# Altium integrated library TI Amplifiers and Linear Operational Amplifier High Speed.IntLib: 1100 symbols (part 31 of 44)
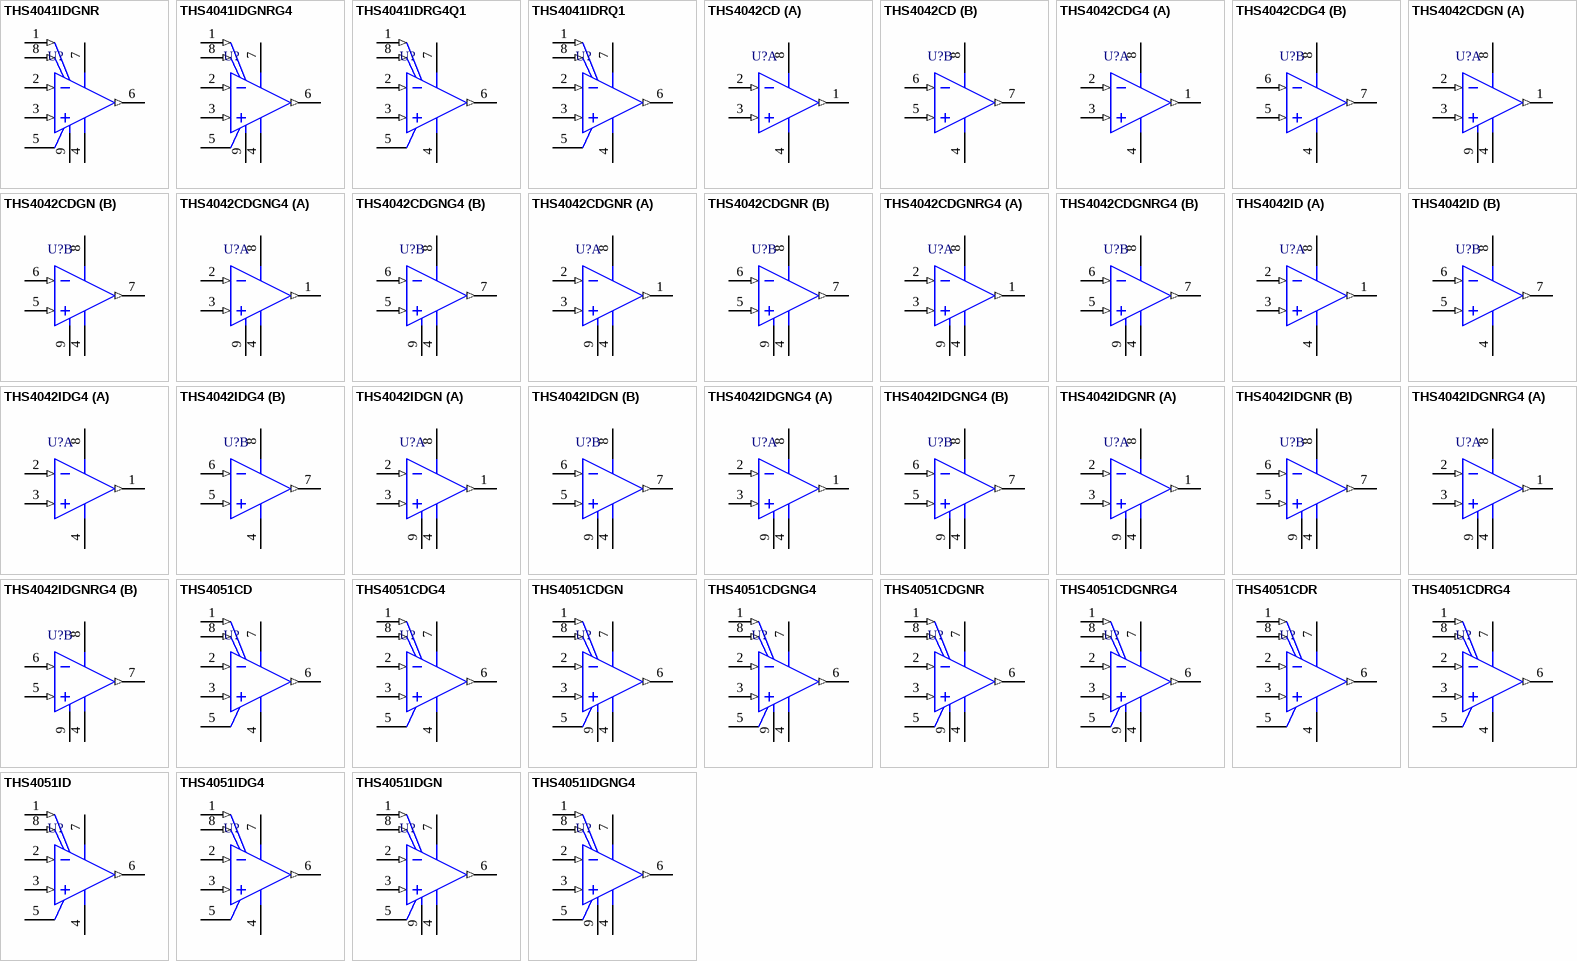
[diagram p81: symbols THS4041IDGNR to THS4051IDGNG4]

## THS4051CDGN
designator U?
70 MHz Low-Cost Voltage-Feedback Amplifier, 9 to 32 V, 0 to 70 degC, 8-pin SOP (DGN8), Green (RoHS & no Sb/Br); Manufacturer: Texas Instruments; PartNumber: THS4051CDGN; 2nd Harmonic(dBc): 84; 3rd Harmonic(dBc): 90; @ MHz: 1; BW @ Acl(MHz): 70; Diff Gain(%): 0.01; Iib(Max)(nA): 8000; Io(Typ)(mA): 100; Iq per channel(Max)(mA): 11.5; Settling Time (0.1%)(Typ)(ns): 60; Slew Rate(Typ)(V/us): 240; Sub Family: High Output Current Amplifier (>=50mA), High Speed Amplifier (>=50MHz), High Supply Voltage Amplifier (>=30V); THD (Fc is 1 MHz)(Typ)(dB): -82; Vio(Max)(mV): 10; Vn at Flatband(Typ)(nV/rtHz): 14; Vs(Max)(V): 32; Vs(Min)(V): 9; DatasheetVersion: SLOS238D; PackageVersion: 4073271/F, 05/2011; PackageReference: DGN8-1760X1425TP; PackageDescription: 8-pin Plastic Small Outline, Body 3 x 3 mm, Pitch 0.65 mm; Supplier 1: Digi-Key; Supplier Part Number 1: THS4051CDGN-ND; Supplier 2: Mouser; Supplier Part Number 2: 595-THS4051CDGN; Acl, min stable gain(V/V): 1; Diff Phase(deg): 0.01; Eco-Plan: Green (RoHS & no Sb/Br); Number of Channels: 1; Mounting Technology: Surface Mount; Code_JEDEC: MO-187; ComponentLink1Description: Manufacturer URL; ComponentLink1URL: http://www.ti.com/; ComponentLink2Description: Datasheet; ComponentLink2URL: http://www.ti.com/general/docs/lit/getliterature.tsp?genericPartNumber=THS4051&fileType=pdf; ComponentLink3Description: Package Specification; ComponentLink3URL: http://www.ti.com/litv/pdf/mpds046e
footprint TI-DGN8-1760X1425TP_N (SOP, 8-Leads, Body 3x3mm, Pitch 0.65mm, Thermal Pad 1.76x1.425mm, IPC Medium Density)
footprint TI-DGN8-1760X1425TP_L (SOP, 8-Leads, Body 3x3mm, Pitch 0.65mm, Thermal Pad 1.76x1.425mm, IPC High Density)
footprint TI-DGN8-1760X1425TP_M (SOP, 8-Leads, Body 3x3mm, Pitch 0.65mm, Thermal Pad 1.76 x 1.425 mm, IPC Low Density)
pins: 1 NULL (in), 2 IN- (in), 3 IN+ (in), 4 VCC- (power), 5 NC, 6 OUT (out), 7 VCC+ (power), 8 NULL (in), 9 EP

## THS4051CDGNG4
designator U?
70 MHz Low-Cost Voltage-Feedback Amplifier, 9 to 32 V, 0 to 70 degC, 8-pin SOP (DGN8), Green (RoHS & no Sb/Br); Manufacturer: Texas Instruments; PartNumber: THS4051CDGNG4; 2nd Harmonic(dBc): 84; 3rd Harmonic(dBc): 90; @ MHz: 1; BW @ Acl(MHz): 70; Diff Gain(%): 0.01; Iib(Max)(nA): 8000; Io(Typ)(mA): 100; Iq per channel(Max)(mA): 11.5; Settling Time (0.1%)(Typ)(ns): 60; Slew Rate(Typ)(V/us): 240; Sub Family: High Output Current Amplifier (>=50mA), High Speed Amplifier (>=50MHz), High Supply Voltage Amplifier (>=30V); THD (Fc is 1 MHz)(Typ)(dB): -82; Vio(Max)(mV): 10; Vn at Flatband(Typ)(nV/rtHz): 14; Vs(Max)(V): 32; Vs(Min)(V): 9; DatasheetVersion: SLOS238D; PackageVersion: 4073271/F, 05/2011; PackageReference: DGN8-1760X1425TP; PackageDescription: 8-pin Plastic Small Outline, Body 3 x 3 mm, Pitch 0.65 mm; Supplier 1: Digi-Key; Supplier Part Number 1: THS4051CDGNG4-ND; Supplier 2: Mouser; Supplier Part Number 2: 595-THS4051CDGNG4; Acl, min stable gain(V/V): 1; Diff Phase(deg): 0.01; Eco-Plan: Green (RoHS & no Sb/Br); Number of Channels: 1; Mounting Technology: Surface Mount; Code_JEDEC: MO-187; ComponentLink1Description: Manufacturer URL; ComponentLink1URL: http://www.ti.com/; ComponentLink2Description: Datasheet; ComponentLink2URL: http://www.ti.com/general/docs/lit/getliterature.tsp?genericPartNumber=THS4051&fileType=pdf; ComponentLink3Description: Package Specification; ComponentLink3URL: http://www.ti.com/litv/pdf/mpds046e
footprint TI-DGN8-1760X1425TP_N (SOP, 8-Leads, Body 3x3mm, Pitch 0.65mm, Thermal Pad 1.76x1.425mm, IPC Medium Density)
footprint TI-DGN8-1760X1425TP_L (SOP, 8-Leads, Body 3x3mm, Pitch 0.65mm, Thermal Pad 1.76x1.425mm, IPC High Density)
footprint TI-DGN8-1760X1425TP_M (SOP, 8-Leads, Body 3x3mm, Pitch 0.65mm, Thermal Pad 1.76 x 1.425 mm, IPC Low Density)
pins: 1 NULL (in), 2 IN- (in), 3 IN+ (in), 4 VCC- (power), 5 NC, 6 OUT (out), 7 VCC+ (power), 8 NULL (in), 9 EP

## THS4051CDGNR
designator U?
70 MHz Low-Cost Voltage-Feedback Amplifier, 9 to 32 V, 0 to 70 degC, 8-pin SOP (DGN8), Green (RoHS & no Sb/Br); Manufacturer: Texas Instruments; PartNumber: THS4051CDGNR; 2nd Harmonic(dBc): 84; 3rd Harmonic(dBc): 90; @ MHz: 1; BW @ Acl(MHz): 70; Diff Gain(%): 0.01; Iib(Max)(nA): 8000; Io(Typ)(mA): 100; Iq per channel(Max)(mA): 11.5; Settling Time (0.1%)(Typ)(ns): 60; Slew Rate(Typ)(V/us): 240; Sub Family: High Output Current Amplifier (>=50mA), High Speed Amplifier (>=50MHz), High Supply Voltage Amplifier (>=30V); THD (Fc is 1 MHz)(Typ)(dB): -82; Vio(Max)(mV): 10; Vn at Flatband(Typ)(nV/rtHz): 14; Vs(Max)(V): 32; Vs(Min)(V): 9; DatasheetVersion: SLOS238D; PackageVersion: 4073271/F, 05/2011; PackageReference: DGN8-1760X1425TP; PackageDescription: 8-pin Plastic Small Outline, Body 3 x 3 mm, Pitch 0.65 mm; Supplier 1: Digi-Key; Supplier Part Number 1: 296-7534-2-ND; Supplier 2: Digi-Key; Supplier Part Number 2: 296-7534-1-ND; Supplier 3: Digi-Key; Supplier Part Number 3: 296-7534-6-ND; Supplier 4: Mouser; Supplier Part Number 4: 595-THS4051CDGNR; Acl, min stable gain(V/V): 1; Diff Phase(deg): 0.01; Eco-Plan: Green (RoHS & no Sb/Br); Number of Channels: 1; Mounting Technology: Surface Mount; Code_JEDEC: MO-187; ComponentLink1Description: Manufacturer URL; ComponentLink1URL: http://www.ti.com/; ComponentLink2Description: Datasheet; ComponentLink2URL: http://www.ti.com/general/docs/lit/getliterature.tsp?genericPartNumber=THS4051&fileType=pdf; ComponentLink3Description: Package Specification; ComponentLink3URL: http://www.ti.com/litv/pdf/mpds046e
footprint TI-DGN8-1760X1425TP_N (SOP, 8-Leads, Body 3x3mm, Pitch 0.65mm, Thermal Pad 1.76x1.425mm, IPC Medium Density)
footprint TI-DGN8-1760X1425TP_L (SOP, 8-Leads, Body 3x3mm, Pitch 0.65mm, Thermal Pad 1.76x1.425mm, IPC High Density)
footprint TI-DGN8-1760X1425TP_M (SOP, 8-Leads, Body 3x3mm, Pitch 0.65mm, Thermal Pad 1.76 x 1.425 mm, IPC Low Density)
pins: 1 NULL (in), 2 IN- (in), 3 IN+ (in), 4 VCC- (power), 5 NC, 6 OUT (out), 7 VCC+ (power), 8 NULL (in), 9 EP

## THS4051CDGNRG4
designator U?
70 MHz Low-Cost Voltage-Feedback Amplifier, 9 to 32 V, 0 to 70 degC, 8-pin SOP (DGN8), Green (RoHS & no Sb/Br); Manufacturer: Texas Instruments; PartNumber: THS4051CDGNRG4; 2nd Harmonic(dBc): 84; 3rd Harmonic(dBc): 90; @ MHz: 1; BW @ Acl(MHz): 70; Diff Gain(%): 0.01; Iib(Max)(nA): 8000; Io(Typ)(mA): 100; Iq per channel(Max)(mA): 11.5; Settling Time (0.1%)(Typ)(ns): 60; Slew Rate(Typ)(V/us): 240; Sub Family: High Output Current Amplifier (>=50mA), High Speed Amplifier (>=50MHz), High Supply Voltage Amplifier (>=30V); THD (Fc is 1 MHz)(Typ)(dB): -82; Vio(Max)(mV): 10; Vn at Flatband(Typ)(nV/rtHz): 14; Vs(Max)(V): 32; Vs(Min)(V): 9; DatasheetVersion: SLOS238D; PackageVersion: 4073271/F, 05/2011; PackageReference: DGN8-1760X1425TP; PackageDescription: 8-pin Plastic Small Outline, Body 3 x 3 mm, Pitch 0.65 mm; Supplier 1: Digi-Key; Supplier Part Number 1: THS4051CDGNRG4-ND; Supplier 2: Mouser; Supplier Part Number 2: 595-THS4051CDGNRG4; Acl, min stable gain(V/V): 1; Diff Phase(deg): 0.01; Eco-Plan: Green (RoHS & no Sb/Br); Number of Channels: 1; Mounting Technology: Surface Mount; Code_JEDEC: MO-187; ComponentLink1Description: Manufacturer URL; ComponentLink1URL: http://www.ti.com/; ComponentLink2Description: Datasheet; ComponentLink2URL: http://www.ti.com/general/docs/lit/getliterature.tsp?genericPartNumber=THS4051&fileType=pdf; ComponentLink3Description: Package Specification; ComponentLink3URL: http://www.ti.com/litv/pdf/mpds046e
footprint TI-DGN8-1760X1425TP_N (SOP, 8-Leads, Body 3x3mm, Pitch 0.65mm, Thermal Pad 1.76x1.425mm, IPC Medium Density)
footprint TI-DGN8-1760X1425TP_L (SOP, 8-Leads, Body 3x3mm, Pitch 0.65mm, Thermal Pad 1.76x1.425mm, IPC High Density)
footprint TI-DGN8-1760X1425TP_M (SOP, 8-Leads, Body 3x3mm, Pitch 0.65mm, Thermal Pad 1.76 x 1.425 mm, IPC Low Density)
pins: 1 NULL (in), 2 IN- (in), 3 IN+ (in), 4 VCC- (power), 5 NC, 6 OUT (out), 7 VCC+ (power), 8 NULL (in), 9 EP

## THS4051CDR
designator U?
70 MHz Low-Cost Voltage-Feedback Amplifier, 9 to 32 V, 0 to 70 degC, 8-pin SOIC (D8), Green (RoHS & no Sb/Br); Manufacturer: Texas Instruments; PartNumber: THS4051CDR; 2nd Harmonic(dBc): 84; 3rd Harmonic(dBc): 90; @ MHz: 1; BW @ Acl(MHz): 70; Diff Gain(%): 0.01; Iib(Max)(nA): 8000; Io(Typ)(mA): 100; Iq per channel(Max)(mA): 11.5; Settling Time (0.1%)(Typ)(ns): 60; Slew Rate(Typ)(V/us): 240; Sub Family: High Output Current Amplifier (>=50mA), High Speed Amplifier (>=50MHz), High Supply Voltage Amplifier (>=30V); THD (Fc is 1 MHz)(Typ)(dB): -82; Vio(Max)(mV): 10; Vn at Flatband(Typ)(nV/rtHz): 14; Vs(Max)(V): 32; Vs(Min)(V): 9; DatasheetVersion: SLOS238D; PackageVersion: 4040047-3/M, 06/2011; PackageReference: D8; PackageDescription: 8-Pin Plastic Small Outline, Body 4.9 x 3.9 mm, Pitch 1.27 mm; Supplier 1: Digi-Key; Supplier Part Number 1: THS4051CDR-ND; Supplier 2: Newark; Supplier Part Number 2: 76C6336; Supplier 3: Mouser; Supplier Part Number 3: 595-THS4051CDR; Acl, min stable gain(V/V): 1; Diff Phase(deg): 0.01; Eco-Plan: Green (RoHS & no Sb/Br); Number of Channels: 1; Mounting Technology: Surface Mount; Code_JEDEC: MS-012; ComponentLink1Description: Manufacturer URL; ComponentLink1URL: http://www.ti.com/; ComponentLink2Description: Datasheet; ComponentLink2URL: http://www.ti.com/general/docs/lit/getliterature.tsp?genericPartNumber=THS4051&fileType=pdf; ComponentLink3Description: Package Specification; ComponentLink3URL: http://www.ti.com/litv/pdf/msoi002j
footprint TI-D8_N (SOIC, 8-Leads, Body 4.9x3.9mm, Pitch 1.27mm, IPC Medium Density)
footprint TI-D8_L (SOIC, 8-Leads, Body 4.9x3.9mm, Pitch 1.27mm, IPC High Density)
footprint TI-D8_M (SOIC, 8-Leads, Body 4.9x3.9mm, Pitch 1.27mm, IPC Low Density)
pins: 1 NULL (in), 2 IN- (in), 3 IN+ (in), 4 VCC- (power), 5 NC, 6 OUT (out), 7 VCC+ (power), 8 NULL (in)

## THS4051CDRG4
designator U?
70 MHz Low-Cost Voltage-Feedback Amplifier, 9 to 32 V, 0 to 70 degC, 8-pin SOIC (D8), Green (RoHS & no Sb/Br); Manufacturer: Texas Instruments; PartNumber: THS4051CDRG4; 2nd Harmonic(dBc): 84; 3rd Harmonic(dBc): 90; @ MHz: 1; BW @ Acl(MHz): 70; Diff Gain(%): 0.01; Iib(Max)(nA): 8000; Io(Typ)(mA): 100; Iq per channel(Max)(mA): 11.5; Settling Time (0.1%)(Typ)(ns): 60; Slew Rate(Typ)(V/us): 240; Sub Family: High Output Current Amplifier (>=50mA), High Speed Amplifier (>=50MHz), High Supply Voltage Amplifier (>=30V); THD (Fc is 1 MHz)(Typ)(dB): -82; Vio(Max)(mV): 10; Vn at Flatband(Typ)(nV/rtHz): 14; Vs(Max)(V): 32; Vs(Min)(V): 9; DatasheetVersion: SLOS238D; PackageVersion: 4040047-3/M, 06/2011; PackageReference: D8; PackageDescription: 8-Pin Plastic Small Outline, Body 4.9 x 3.9 mm, Pitch 1.27 mm; Supplier 1: Digi-Key; Supplier Part Number 1: THS4051CDRG4-ND; Supplier 2: Mouser; Supplier Part Number 2: 595-THS4051CDRG4; Acl, min stable gain(V/V): 1; Diff Phase(deg): 0.01; Eco-Plan: Green (RoHS & no Sb/Br); Number of Channels: 1; Mounting Technology: Surface Mount; Code_JEDEC: MS-012; ComponentLink1Description: Manufacturer URL; ComponentLink1URL: http://www.ti.com/; ComponentLink2Description: Datasheet; ComponentLink2URL: http://www.ti.com/general/docs/lit/getliterature.tsp?genericPartNumber=THS4051&fileType=pdf; ComponentLink3Description: Package Specification; ComponentLink3URL: http://www.ti.com/litv/pdf/msoi002j
footprint TI-D8_N (SOIC, 8-Leads, Body 4.9x3.9mm, Pitch 1.27mm, IPC Medium Density)
footprint TI-D8_L (SOIC, 8-Leads, Body 4.9x3.9mm, Pitch 1.27mm, IPC High Density)
footprint TI-D8_M (SOIC, 8-Leads, Body 4.9x3.9mm, Pitch 1.27mm, IPC Low Density)
pins: 1 NULL (in), 2 IN- (in), 3 IN+ (in), 4 VCC- (power), 5 NC, 6 OUT (out), 7 VCC+ (power), 8 NULL (in)

## THS4051ID
designator U?
70 MHz Low-Cost Voltage-Feedback Amplifier, 9 to 32 V, -40 to 85 degC, 8-pin SOIC (D8), Green (RoHS & no Sb/Br); Manufacturer: Texas Instruments; PartNumber: THS4051ID; 2nd Harmonic(dBc): 84; 3rd Harmonic(dBc): 90; @ MHz: 1; BW @ Acl(MHz): 70; Diff Gain(%): 0.01; Iib(Max)(nA): 8000; Io(Typ)(mA): 100; Iq per channel(Max)(mA): 11.5; Settling Time (0.1%)(Typ)(ns): 60; Slew Rate(Typ)(V/us): 240; Sub Family: High Output Current Amplifier (>=50mA), High Speed Amplifier (>=50MHz), High Supply Voltage Amplifier (>=30V); THD (Fc is 1 MHz)(Typ)(dB): -82; Vio(Max)(mV): 10; Vn at Flatband(Typ)(nV/rtHz): 14; Vs(Max)(V): 32; Vs(Min)(V): 9; DatasheetVersion: SLOS238D; PackageVersion: 4040047-3/M, 06/2011; PackageReference: D8; PackageDescription: 8-Pin Plastic Small Outline, Body 4.9 x 3.9 mm, Pitch 1.27 mm; Supplier 1: Digi-Key; Supplier Part Number 1: 296-7535-5-ND; Supplier 2: Newark; Supplier Part Number 2: 76C6338; Supplier 3: Mouser; Supplier Part Number 3: 595-THS4051ID; Acl, min stable gain(V/V): 1; Diff Phase(deg): 0.01; Eco-Plan: Green (RoHS & no Sb/Br); Number of Channels: 1; Mounting Technology: Surface Mount; Code_JEDEC: MS-012; ComponentLink1Description: Manufacturer URL; ComponentLink1URL: http://www.ti.com/; ComponentLink2Description: Datasheet; ComponentLink2URL: http://www.ti.com/general/docs/lit/getliterature.tsp?genericPartNumber=THS4051&fileType=pdf; ComponentLink3Description: Package Specification; ComponentLink3URL: http://www.ti.com/litv/pdf/msoi002j
footprint TI-D8_N (SOIC, 8-Leads, Body 4.9x3.9mm, Pitch 1.27mm, IPC Medium Density)
footprint TI-D8_L (SOIC, 8-Leads, Body 4.9x3.9mm, Pitch 1.27mm, IPC High Density)
footprint TI-D8_M (SOIC, 8-Leads, Body 4.9x3.9mm, Pitch 1.27mm, IPC Low Density)
pins: 1 NULL (in), 2 IN- (in), 3 IN+ (in), 4 VCC- (power), 5 NC, 6 OUT (out), 7 VCC+ (power), 8 NULL (in)

## THS4051IDG4
designator U?
70 MHz Low-Cost Voltage-Feedback Amplifier, 9 to 32 V, -40 to 85 degC, 8-pin SOIC (D8), Green (RoHS & no Sb/Br); Manufacturer: Texas Instruments; PartNumber: THS4051IDG4; 2nd Harmonic(dBc): 84; 3rd Harmonic(dBc): 90; @ MHz: 1; BW @ Acl(MHz): 70; Diff Gain(%): 0.01; Iib(Max)(nA): 8000; Io(Typ)(mA): 100; Iq per channel(Max)(mA): 11.5; Settling Time (0.1%)(Typ)(ns): 60; Slew Rate(Typ)(V/us): 240; Sub Family: High Output Current Amplifier (>=50mA), High Speed Amplifier (>=50MHz), High Supply Voltage Amplifier (>=30V); THD (Fc is 1 MHz)(Typ)(dB): -82; Vio(Max)(mV): 10; Vn at Flatband(Typ)(nV/rtHz): 14; Vs(Max)(V): 32; Vs(Min)(V): 9; DatasheetVersion: SLOS238D; PackageVersion: 4040047-3/M, 06/2011; PackageReference: D8; PackageDescription: 8-Pin Plastic Small Outline, Body 4.9 x 3.9 mm, Pitch 1.27 mm; Supplier 1: Digi-Key; Supplier Part Number 1: THS4051IDG4-ND; Supplier 2: Mouser; Supplier Part Number 2: 595-THS4051IDG4; Acl, min stable gain(V/V): 1; Diff Phase(deg): 0.01; Eco-Plan: Green (RoHS & no Sb/Br); Number of Channels: 1; Mounting Technology: Surface Mount; Code_JEDEC: MS-012; ComponentLink1Description: Manufacturer URL; ComponentLink1URL: http://www.ti.com/; ComponentLink2Description: Datasheet; ComponentLink2URL: http://www.ti.com/general/docs/lit/getliterature.tsp?genericPartNumber=THS4051&fileType=pdf; ComponentLink3Description: Package Specification; ComponentLink3URL: http://www.ti.com/litv/pdf/msoi002j
footprint TI-D8_N (SOIC, 8-Leads, Body 4.9x3.9mm, Pitch 1.27mm, IPC Medium Density)
footprint TI-D8_L (SOIC, 8-Leads, Body 4.9x3.9mm, Pitch 1.27mm, IPC High Density)
footprint TI-D8_M (SOIC, 8-Leads, Body 4.9x3.9mm, Pitch 1.27mm, IPC Low Density)
pins: 1 NULL (in), 2 IN- (in), 3 IN+ (in), 4 VCC- (power), 5 NC, 6 OUT (out), 7 VCC+ (power), 8 NULL (in)

## THS4051IDGN
designator U?
70 MHz Low-Cost Voltage-Feedback Amplifier, 9 to 32 V, -40 to 85 degC, 8-pin SOP (DGN8), Green (RoHS & no Sb/Br); Manufacturer: Texas Instruments; PartNumber: THS4051IDGN; 2nd Harmonic(dBc): 84; 3rd Harmonic(dBc): 90; @ MHz: 1; BW @ Acl(MHz): 70; Diff Gain(%): 0.01; Iib(Max)(nA): 8000; Io(Typ)(mA): 100; Iq per channel(Max)(mA): 11.5; Settling Time (0.1%)(Typ)(ns): 60; Slew Rate(Typ)(V/us): 240; Sub Family: High Output Current Amplifier (>=50mA), High Speed Amplifier (>=50MHz), High Supply Voltage Amplifier (>=30V); THD (Fc is 1 MHz)(Typ)(dB): -82; Vio(Max)(mV): 10; Vn at Flatband(Typ)(nV/rtHz): 14; Vs(Max)(V): 32; Vs(Min)(V): 9; DatasheetVersion: SLOS238D; PackageVersion: 4073271/F, 05/2011; PackageReference: DGN8-1760X1425TP; PackageDescription: 8-pin Plastic Small Outline, Body 3 x 3 mm, Pitch 0.65 mm; Supplier 1: Digi-Key; Supplier Part Number 1: THS4051IDGN-ND; Supplier 2: Mouser; Supplier Part Number 2: 595-THS4051IDGN; Acl, min stable gain(V/V): 1; Diff Phase(deg): 0.01; Eco-Plan: Green (RoHS & no Sb/Br); Number of Channels: 1; Mounting Technology: Surface Mount; Code_JEDEC: MO-187; ComponentLink1Description: Manufacturer URL; ComponentLink1URL: http://www.ti.com/; ComponentLink2Description: Datasheet; ComponentLink2URL: http://www.ti.com/general/docs/lit/getliterature.tsp?genericPartNumber=THS4051&fileType=pdf; ComponentLink3Description: Package Specification; ComponentLink3URL: http://www.ti.com/litv/pdf/mpds046e
footprint TI-DGN8-1760X1425TP_N (SOP, 8-Leads, Body 3x3mm, Pitch 0.65mm, Thermal Pad 1.76x1.425mm, IPC Medium Density)
footprint TI-DGN8-1760X1425TP_L (SOP, 8-Leads, Body 3x3mm, Pitch 0.65mm, Thermal Pad 1.76x1.425mm, IPC High Density)
footprint TI-DGN8-1760X1425TP_M (SOP, 8-Leads, Body 3x3mm, Pitch 0.65mm, Thermal Pad 1.76 x 1.425 mm, IPC Low Density)
pins: 1 NULL (in), 2 IN- (in), 3 IN+ (in), 4 VCC- (power), 5 NC, 6 OUT (out), 7 VCC+ (power), 8 NULL (in), 9 EP

## THS4051IDGNG4
designator U?
70 MHz Low-Cost Voltage-Feedback Amplifier, 9 to 32 V, -40 to 85 degC, 8-pin SOP (DGN8), Green (RoHS & no Sb/Br); Manufacturer: Texas Instruments; PartNumber: THS4051IDGNG4; 2nd Harmonic(dBc): 84; 3rd Harmonic(dBc): 90; @ MHz: 1; BW @ Acl(MHz): 70; Diff Gain(%): 0.01; Iib(Max)(nA): 8000; Io(Typ)(mA): 100; Iq per channel(Max)(mA): 11.5; Settling Time (0.1%)(Typ)(ns): 60; Slew Rate(Typ)(V/us): 240; Sub Family: High Output Current Amplifier (>=50mA), High Speed Amplifier (>=50MHz), High Supply Voltage Amplifier (>=30V); THD (Fc is 1 MHz)(Typ)(dB): -82; Vio(Max)(mV): 10; Vn at Flatband(Typ)(nV/rtHz): 14; Vs(Max)(V): 32; Vs(Min)(V): 9; DatasheetVersion: SLOS238D; PackageVersion: 4073271/F, 05/2011; PackageReference: DGN8-1760X1425TP; PackageDescription: 8-pin Plastic Small Outline, Body 3 x 3 mm, Pitch 0.65 mm; Supplier 1: Digi-Key; Supplier Part Number 1: THS4051IDGNG4-ND; Supplier 2: Mouser; Supplier Part Number 2: 595-THS4051IDGNG4; Acl, min stable gain(V/V): 1; Diff Phase(deg): 0.01; Eco-Plan: Green (RoHS & no Sb/Br); Number of Channels: 1; Mounting Technology: Surface Mount; Code_JEDEC: MO-187; ComponentLink1Description: Manufacturer URL; ComponentLink1URL: http://www.ti.com/; ComponentLink2Description: Datasheet; ComponentLink2URL: http://www.ti.com/general/docs/lit/getliterature.tsp?genericPartNumber=THS4051&fileType=pdf; ComponentLink3Description: Package Specification; ComponentLink3URL: http://www.ti.com/litv/pdf/mpds046e
footprint TI-DGN8-1760X1425TP_N (SOP, 8-Leads, Body 3x3mm, Pitch 0.65mm, Thermal Pad 1.76x1.425mm, IPC Medium Density)
footprint TI-DGN8-1760X1425TP_L (SOP, 8-Leads, Body 3x3mm, Pitch 0.65mm, Thermal Pad 1.76x1.425mm, IPC High Density)
footprint TI-DGN8-1760X1425TP_M (SOP, 8-Leads, Body 3x3mm, Pitch 0.65mm, Thermal Pad 1.76 x 1.425 mm, IPC Low Density)
pins: 1 NULL (in), 2 IN- (in), 3 IN+ (in), 4 VCC- (power), 5 NC, 6 OUT (out), 7 VCC+ (power), 8 NULL (in), 9 EP

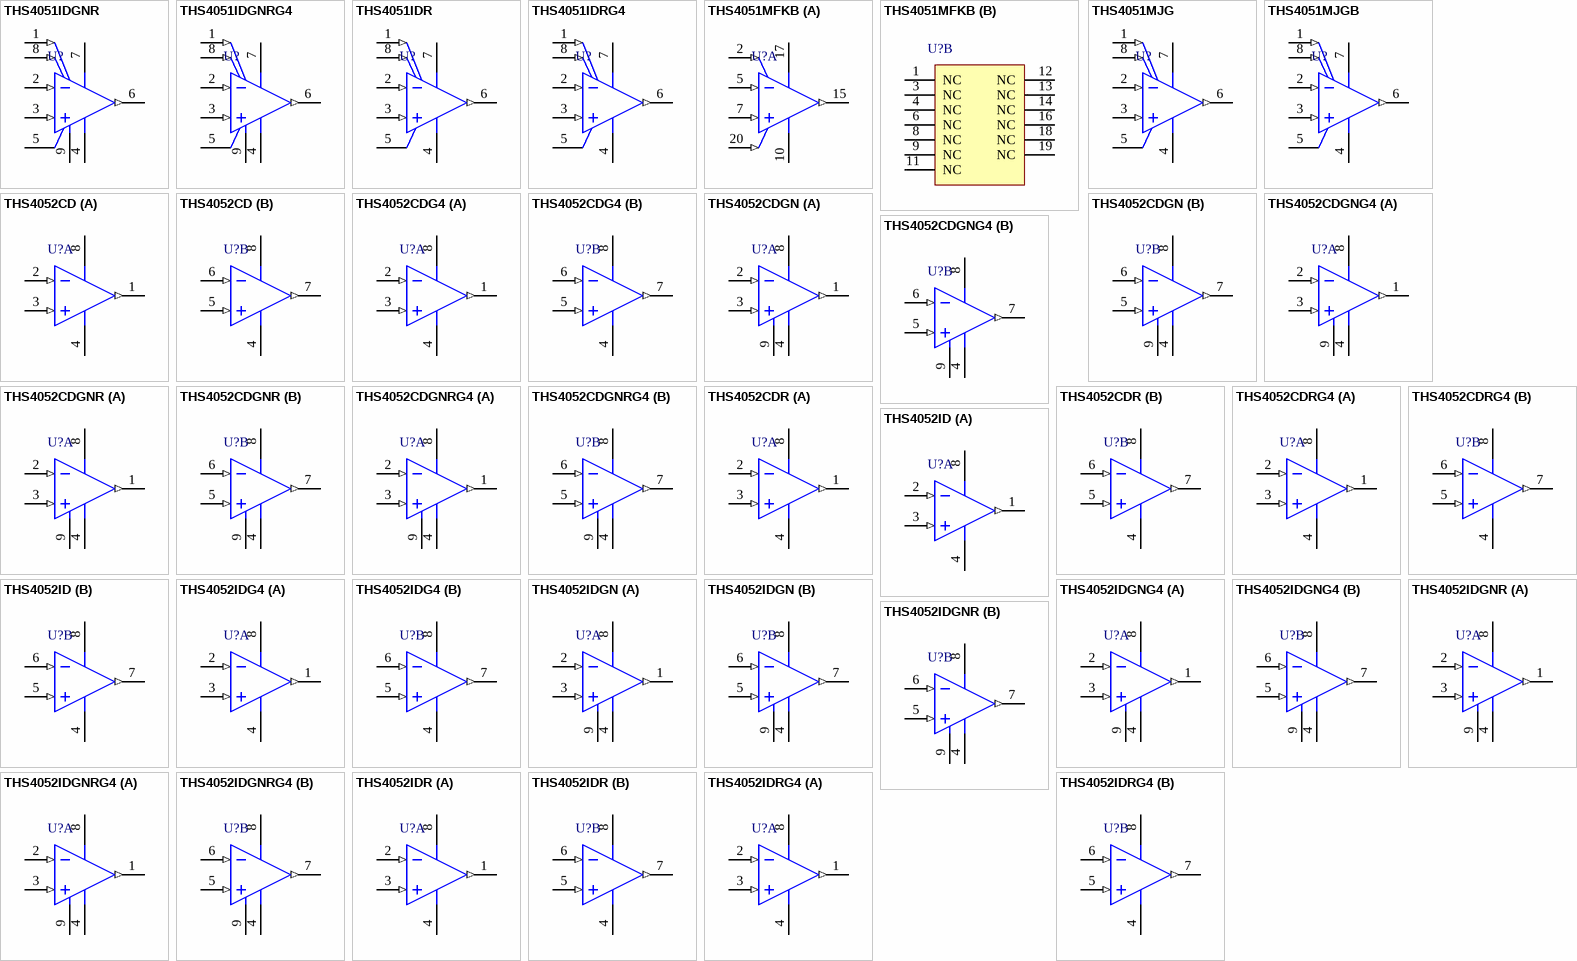
[diagram p36: symbols THS4051IDGNR to THS4052IDRG4]

## THS4051IDGNR
designator U?
70 MHz Low-Cost Voltage-Feedback Amplifier, 9 to 32 V, -40 to 85 degC, 8-pin SOP (DGN8), Green (RoHS & no Sb/Br); Manufacturer: Texas Instruments; PartNumber: THS4051IDGNR; 2nd Harmonic(dBc): 84; 3rd Harmonic(dBc): 90; @ MHz: 1; BW @ Acl(MHz): 70; Diff Gain(%): 0.01; Iib(Max)(nA): 8000; Io(Typ)(mA): 100; Iq per channel(Max)(mA): 11.5; Settling Time (0.1%)(Typ)(ns): 60; Slew Rate(Typ)(V/us): 240; Sub Family: High Output Current Amplifier (>=50mA), High Speed Amplifier (>=50MHz), High Supply Voltage Amplifier (>=30V); THD (Fc is 1 MHz)(Typ)(dB): -82; Vio(Max)(mV): 10; Vn at Flatband(Typ)(nV/rtHz): 14; Vs(Max)(V): 32; Vs(Min)(V): 9; DatasheetVersion: SLOS238D; PackageVersion: 4073271/F, 05/2011; PackageReference: DGN8-1760X1425TP; PackageDescription: 8-pin Plastic Small Outline, Body 3 x 3 mm, Pitch 0.65 mm; Supplier 1: Digi-Key; Supplier Part Number 1: 296-7536-2-ND; Supplier 2: Digi-Key; Supplier Part Number 2: 296-7536-1-ND; Supplier 3: Digi-Key; Supplier Part Number 3: 296-7536-6-ND; Supplier 4: Mouser; Supplier Part Number 4: 595-THS4051IDGNR; Acl, min stable gain(V/V): 1; Diff Phase(deg): 0.01; Eco-Plan: Green (RoHS & no Sb/Br); Number of Channels: 1; Mounting Technology: Surface Mount; Code_JEDEC: MO-187; ComponentLink1Description: Manufacturer URL; ComponentLink1URL: http://www.ti.com/; ComponentLink2Description: Datasheet; ComponentLink2URL: http://www.ti.com/general/docs/lit/getliterature.tsp?genericPartNumber=THS4051&fileType=pdf; ComponentLink3Description: Package Specification; ComponentLink3URL: http://www.ti.com/litv/pdf/mpds046e
footprint TI-DGN8-1760X1425TP_N (SOP, 8-Leads, Body 3x3mm, Pitch 0.65mm, Thermal Pad 1.76x1.425mm, IPC Medium Density)
footprint TI-DGN8-1760X1425TP_L (SOP, 8-Leads, Body 3x3mm, Pitch 0.65mm, Thermal Pad 1.76x1.425mm, IPC High Density)
footprint TI-DGN8-1760X1425TP_M (SOP, 8-Leads, Body 3x3mm, Pitch 0.65mm, Thermal Pad 1.76 x 1.425 mm, IPC Low Density)
pins: 1 NULL (in), 2 IN- (in), 3 IN+ (in), 4 VCC- (power), 5 NC, 6 OUT (out), 7 VCC+ (power), 8 NULL (in), 9 EP

## THS4051IDGNRG4
designator U?
70 MHz Low-Cost Voltage-Feedback Amplifier, 9 to 32 V, -40 to 85 degC, 8-pin SOP (DGN8), Green (RoHS & no Sb/Br); Manufacturer: Texas Instruments; PartNumber: THS4051IDGNRG4; 2nd Harmonic(dBc): 84; 3rd Harmonic(dBc): 90; @ MHz: 1; BW @ Acl(MHz): 70; Diff Gain(%): 0.01; Iib(Max)(nA): 8000; Io(Typ)(mA): 100; Iq per channel(Max)(mA): 11.5; Settling Time (0.1%)(Typ)(ns): 60; Slew Rate(Typ)(V/us): 240; Sub Family: High Output Current Amplifier (>=50mA), High Speed Amplifier (>=50MHz), High Supply Voltage Amplifier (>=30V); THD (Fc is 1 MHz)(Typ)(dB): -82; Vio(Max)(mV): 10; Vn at Flatband(Typ)(nV/rtHz): 14; Vs(Max)(V): 32; Vs(Min)(V): 9; DatasheetVersion: SLOS238D; PackageVersion: 4073271/F, 05/2011; PackageReference: DGN8-1760X1425TP; PackageDescription: 8-pin Plastic Small Outline, Body 3 x 3 mm, Pitch 0.65 mm; Supplier 1: Digi-Key; Supplier Part Number 1: THS4051IDGNRG4-ND; Supplier 2: Mouser; Supplier Part Number 2: 595-THS4051IDGNRG4; Acl, min stable gain(V/V): 1; Diff Phase(deg): 0.01; Eco-Plan: Green (RoHS & no Sb/Br); Number of Channels: 1; Mounting Technology: Surface Mount; Code_JEDEC: MO-187; ComponentLink1Description: Manufacturer URL; ComponentLink1URL: http://www.ti.com/; ComponentLink2Description: Datasheet; ComponentLink2URL: http://www.ti.com/general/docs/lit/getliterature.tsp?genericPartNumber=THS4051&fileType=pdf; ComponentLink3Description: Package Specification; ComponentLink3URL: http://www.ti.com/litv/pdf/mpds046e
footprint TI-DGN8-1760X1425TP_N (SOP, 8-Leads, Body 3x3mm, Pitch 0.65mm, Thermal Pad 1.76x1.425mm, IPC Medium Density)
footprint TI-DGN8-1760X1425TP_L (SOP, 8-Leads, Body 3x3mm, Pitch 0.65mm, Thermal Pad 1.76x1.425mm, IPC High Density)
footprint TI-DGN8-1760X1425TP_M (SOP, 8-Leads, Body 3x3mm, Pitch 0.65mm, Thermal Pad 1.76 x 1.425 mm, IPC Low Density)
pins: 1 NULL (in), 2 IN- (in), 3 IN+ (in), 4 VCC- (power), 5 NC, 6 OUT (out), 7 VCC+ (power), 8 NULL (in), 9 EP

## THS4051IDR
designator U?
70 MHz Low-Cost Voltage-Feedback Amplifier, 9 to 32 V, -40 to 85 degC, 8-pin SOIC (D8), Green (RoHS & no Sb/Br); Manufacturer: Texas Instruments; PartNumber: THS4051IDR; 2nd Harmonic(dBc): 84; 3rd Harmonic(dBc): 90; @ MHz: 1; BW @ Acl(MHz): 70; Diff Gain(%): 0.01; Iib(Max)(nA): 8000; Io(Typ)(mA): 100; Iq per channel(Max)(mA): 11.5; Settling Time (0.1%)(Typ)(ns): 60; Slew Rate(Typ)(V/us): 240; Sub Family: High Output Current Amplifier (>=50mA), High Speed Amplifier (>=50MHz), High Supply Voltage Amplifier (>=30V); THD (Fc is 1 MHz)(Typ)(dB): -82; Vio(Max)(mV): 10; Vn at Flatband(Typ)(nV/rtHz): 14; Vs(Max)(V): 32; Vs(Min)(V): 9; DatasheetVersion: SLOS238D; PackageVersion: 4040047-3/M, 06/2011; PackageReference: D8; PackageDescription: 8-Pin Plastic Small Outline, Body 4.9 x 3.9 mm, Pitch 1.27 mm; Supplier 1: Digi-Key; Supplier Part Number 1: THS4051IDR-ND; Supplier 2: Mouser; Supplier Part Number 2: 595-THS4051IDR; Acl, min stable gain(V/V): 1; Diff Phase(deg): 0.01; Eco-Plan: Green (RoHS & no Sb/Br); Number of Channels: 1; Mounting Technology: Surface Mount; Code_JEDEC: MS-012; ComponentLink1Description: Manufacturer URL; ComponentLink1URL: http://www.ti.com/; ComponentLink2Description: Datasheet; ComponentLink2URL: http://www.ti.com/general/docs/lit/getliterature.tsp?genericPartNumber=THS4051&fileType=pdf; ComponentLink3Description: Package Specification; ComponentLink3URL: http://www.ti.com/litv/pdf/msoi002j
footprint TI-D8_N (SOIC, 8-Leads, Body 4.9x3.9mm, Pitch 1.27mm, IPC Medium Density)
footprint TI-D8_L (SOIC, 8-Leads, Body 4.9x3.9mm, Pitch 1.27mm, IPC High Density)
footprint TI-D8_M (SOIC, 8-Leads, Body 4.9x3.9mm, Pitch 1.27mm, IPC Low Density)
pins: 1 NULL (in), 2 IN- (in), 3 IN+ (in), 4 VCC- (power), 5 NC, 6 OUT (out), 7 VCC+ (power), 8 NULL (in)

## THS4051IDRG4
designator U?
70 MHz Low-Cost Voltage-Feedback Amplifier, 9 to 32 V, -40 to 85 degC, 8-pin SOIC (D8), Green (RoHS & no Sb/Br); Manufacturer: Texas Instruments; PartNumber: THS4051IDRG4; @ MHz: 1; BW @ Acl(MHz): 70; Diff Gain(%): 0.01; Iib(Max)(nA): 6000; Io(Typ)(mA): 100; Iq per channel(Max)(mA): 8.5; Settling Time (0.1%)(Typ)(ns): 60; Slew Rate(Typ)(V/us): 240; Sub Family: High Output Current Amplifier (>=50mA), High Speed Amplifier (>=50MHz), High Supply Voltage Amplifier (>=30V); THD (Fc is 1 MHz)(Typ)(dB): -82; Vio(Max)(mV): 10; Vn at Flatband(Typ)(nV/rtHz): 14; Vs(Max)(V): 32; Vs(Min)(V): 9; DatasheetVersion: SLOS238D; PackageVersion: 4040047-3/M, 06/2011; PackageReference: D8; PackageDescription: 8-Pin Plastic Small Outline, Body 4.9 x 3.9 mm, Pitch 1.27 mm; Supplier 1: Digi-Key; Supplier Part Number 1: THS4051IDRG4-ND; Supplier 2: Mouser; Supplier Part Number 2: 595-THS4051IDRG4; Diff Phase(deg): 0.01; Eco-Plan: Green (RoHS & no Sb/Br); Number of Channels: 1; Mounting Technology: Surface Mount; Code_JEDEC: MS-012; ComponentLink1Description: Manufacturer URL; ComponentLink1URL: http://www.ti.com/; ComponentLink2Description: Datasheet; ComponentLink2URL: http://www.ti.com/general/docs/lit/getliterature.tsp?genericPartNumber=THS4051&fileType=pdf; ComponentLink3Description: Package Specification; ComponentLink3URL: http://www.ti.com/litv/pdf/msoi002j
footprint TI-D8_N (SOIC, 8-Leads, Body 4.9x3.9mm, Pitch 1.27mm, IPC Medium Density)
footprint TI-D8_L (SOIC, 8-Leads, Body 4.9x3.9mm, Pitch 1.27mm, IPC High Density)
footprint TI-D8_M (SOIC, 8-Leads, Body 4.9x3.9mm, Pitch 1.27mm, IPC Low Density)
pins: 1 NULL (in), 2 IN- (in), 3 IN+ (in), 4 VCC- (power), 5 NC, 6 OUT (out), 7 VCC+ (power), 8 NULL (in)

## THS4051MFKB
designator U?
70 MHz High-Speed Amplifier, -55 to 125 degC, 20-pin LCC (FK20); Manufacturer: Texas Instruments; PartNumber: THS4051MFKB; @ MHz: 1; BW @ Acl(MHz): 70; Diff Gain(%): 0.01; Iib(Max)(nA): 6000; Io(Typ)(mA): 100; Iq per channel(Max)(mA): 8.5; Settling Time (0.1%)(Typ)(ns): 60; Slew Rate(Typ)(V/us): 240; Sub Family: High Speed Amplifier (>=50MHz); THD (Fc is 1 MHz)(Typ)(dB): -82; Vio(Max)(mV): 10; Vn at Flatband(Typ)(nV/rtHz): 14; Vs(Max)(V): 33; Vs(Min)(V): 9; PackageVersion: 4040140/D, 01/2011; PackageReference: FK20; PackageDescription: 20-Pin Ceramic, Metal Chip Carrier, Body 8.89 x 8.89 mm, Pitch 1.27 mm; Diff Phase(deg): 0.01; Number of Channels: 1; Mounting Technology: Surface Mount; Code_JEDEC: MS-004; ComponentLink1Description: Manufacturer URL; ComponentLink1URL: http://www.ti.com/; ComponentLink2Description: Datasheet; ComponentLink2URL: http://www.ti.com/general/docs/lit/getliterature.tsp?genericPartNumber=THS4051M&fileType=pdf; ComponentLink3Description: Package Specification; ComponentLink3URL: http://www.ti.com/litv/pdf/mlcc006d
footprint TI-FK20_N (Leadless Chip Carrier, 20-Leads, Body 8.9x8.9mm, Pitch 1.27mm, IPC Medium Density)
footprint TI-FK20_L (Leadless Chip Carrier, 20-Leads, Body 8.9x8.9mm, Pitch 1.27mm, IPC High Density)
footprint TI-FK20_M (Leadless Chip Carrier, 20-Leads, Body 8.9x8.9mm, Pitch 1.27mm, IPC Low Density)
part A pins: 2 NULL (in), 5 IN- (in), 7 IN+ (in), 10 VCC- (power), 15 OUT (out), 17 VCC+ (power), 20 NULL (in)
part B pins: 1 NC, 3 NC, 4 NC, 6 NC, 8 NC, 9 NC, 11 NC, 12 NC, 13 NC, 14 NC, 16 NC, 18 NC, 19 NC

## THS4051MJG
designator U?
70 MHz High-Speed Amplifier, -55 to 125 degC, 8-pin DIP (JG8); Manufacturer: Texas Instruments; PartNumber: THS4051MJG; @ MHz: 1; BW @ Acl(MHz): 70; Diff Gain(%): 0.01; Iib(Max)(nA): 6000; Io(Typ)(mA): 100; Iq per channel(Max)(mA): 8.5; Settling Time (0.1%)(Typ)(ns): 60; Slew Rate(Typ)(V/us): 240; Sub Family: High Speed Amplifier (>=50MHz); THD (Fc is 1 MHz)(Typ)(dB): -82; Vio(Max)(mV): 10; Vn at Flatband(Typ)(nV/rtHz): 14; Vs(Max)(V): 33; Vs(Min)(V): 9; PackageVersion: 4040107/C, 08/1996; PackageReference: JG8; PackageDescription: 8-Pin Ceramic, Glass In-Line, Body 9.58 x 6.665 mm, Pitch 2.54 mm; Diff Phase(deg): 0.01; Number of Channels: 1; Mounting Technology: Through Hole; ComponentLink1Description: Manufacturer URL; ComponentLink1URL: http://www.ti.com/; ComponentLink2Description: Datasheet; ComponentLink2URL: http://www.ti.com/general/docs/lit/getliterature.tsp?genericPartNumber=THS4051M&fileType=pdf; ComponentLink3Description: Package Specification; ComponentLink3URL: http://www.ti.com/litv/pdf/mcer001a
footprint TI-JG8 (DIP, 8-Leads, Body 10.15x7.1mm, Pitch 2.54mm)
pins: 1 NULL (in), 2 IN- (in), 3 IN+ (in), 4 VCC- (power), 5 NC, 6 OUT (out), 7 VCC+ (power), 8 NULL (in)

## THS4051MJGB
designator U?
70 MHz High-Speed Amplifier, -55 to 125 degC, 8-pin DIP (JG8); Manufacturer: Texas Instruments; PartNumber: THS4051MJGB; @ MHz: 1; BW @ Acl(MHz): 70; Diff Gain(%): 0.01; Iib(Max)(nA): 6000; Io(Typ)(mA): 100; Iq per channel(Max)(mA): 8.5; Settling Time (0.1%)(Typ)(ns): 60; Slew Rate(Typ)(V/us): 240; Sub Family: High Speed Amplifier (>=50MHz); THD (Fc is 1 MHz)(Typ)(dB): -82; Vio(Max)(mV): 10; Vn at Flatband(Typ)(nV/rtHz): 14; Vs(Max)(V): 33; Vs(Min)(V): 9; PackageVersion: 4040107/C, 08/1996; PackageReference: JG8; PackageDescription: 8-Pin Ceramic, Glass In-Line, Body 9.58 x 6.665 mm, Pitch 2.54 mm; Diff Phase(deg): 0.01; Number of Channels: 1; Mounting Technology: Through Hole; ComponentLink1Description: Manufacturer URL; ComponentLink1URL: http://www.ti.com/; ComponentLink2Description: Datasheet; ComponentLink2URL: http://www.ti.com/general/docs/lit/getliterature.tsp?genericPartNumber=THS4051M&fileType=pdf; ComponentLink3Description: Package Specification; ComponentLink3URL: http://www.ti.com/litv/pdf/mcer001a
footprint TI-JG8 (DIP, 8-Leads, Body 10.15x7.1mm, Pitch 2.54mm)
pins: 1 NULL (in), 2 IN- (in), 3 IN+ (in), 4 VCC- (power), 5 NC, 6 OUT (out), 7 VCC+ (power), 8 NULL (in)

## THS4052CD
designator U?
70 MHz Low-Cost Voltage-Feedback Amplifier, Dual, 9 to 32 V, 0 to 70 degC, 8-pin SOIC (D8), Green (RoHS & no Sb/Br); Manufacturer: Texas Instruments; PartNumber: THS4052CD; 2nd Harmonic(dBc): 84; 3rd Harmonic(dBc): 90; @ MHz: 1; BW @ Acl(MHz): 70; Diff Gain(%): 0.01; Iib(Max)(nA): 8000; Io(Typ)(mA): 100; Iq per channel(Max)(mA): 11.5; Number of Channels: 2; Settling Time (0.1%)(Typ)(ns): 60; Slew Rate(Typ)(V/us): 240; Sub Family: High Output Current Amplifier (>=50mA), High Speed Amplifier (>=50MHz), High Supply Voltage Amplifier (>=30V); THD (Fc is 1 MHz)(Typ)(dB): -82; Vio(Max)(mV): 10; Vn at Flatband(Typ)(nV/rtHz): 14; Vs(Max)(V): 32; Vs(Min)(V): 9; DatasheetVersion: SLOS238D; PackageVersion: 4040047-3/M, 06/2011; PackageReference: D8; PackageDescription: 8-Pin Plastic Small Outline, Body 4.9 x 3.9 mm, Pitch 1.27 mm; Supplier 1: Digi-Key; Supplier Part Number 1: 296-7537-5-ND; Supplier 2: Newark; Supplier Part Number 2: 76C6342; Supplier 3: Mouser; Supplier Part Number 3: 595-THS4052CD; Acl, min stable gain(V/V): 1; Diff Phase(deg): 0.01; Eco-Plan: Green (RoHS & no Sb/Br); Mounting Technology: Surface Mount; Code_JEDEC: MS-012; ComponentLink1Description: Manufacturer URL; ComponentLink1URL: http://www.ti.com/; ComponentLink2Description: Datasheet; ComponentLink2URL: http://www.ti.com/general/docs/lit/getliterature.tsp?genericPartNumber=THS4052&fileType=pdf; ComponentLink3Description: Package Specification; ComponentLink3URL: http://www.ti.com/litv/pdf/msoi002j
footprint TI-D8_N (SOIC, 8-Leads, Body 4.9x3.9mm, Pitch 1.27mm, IPC Medium Density)
footprint TI-D8_L (SOIC, 8-Leads, Body 4.9x3.9mm, Pitch 1.27mm, IPC High Density)
footprint TI-D8_M (SOIC, 8-Leads, Body 4.9x3.9mm, Pitch 1.27mm, IPC Low Density)
pins on every part: 4 VCC- (power), 8 VCC+ (power)
part A pins: 1 OUT1 (out), 2 IN1- (in), 3 IN1+ (in)
part B pins: 5 IN2+ (in), 6 IN2- (in), 7 OUT2 (out)

## THS4052CDG4
designator U?
70 MHz Low-Cost Voltage-Feedback Amplifier, Dual, 9 to 32 V, 0 to 70 degC, 8-pin SOIC (D8), Green (RoHS & no Sb/Br); Manufacturer: Texas Instruments; PartNumber: THS4052CDG4; 2nd Harmonic(dBc): 84; 3rd Harmonic(dBc): 90; @ MHz: 1; BW @ Acl(MHz): 70; Diff Gain(%): 0.01; Iib(Max)(nA): 8000; Io(Typ)(mA): 100; Iq per channel(Max)(mA): 11.5; Number of Channels: 2; Settling Time (0.1%)(Typ)(ns): 60; Slew Rate(Typ)(V/us): 240; Sub Family: High Output Current Amplifier (>=50mA), High Speed Amplifier (>=50MHz), High Supply Voltage Amplifier (>=30V); THD (Fc is 1 MHz)(Typ)(dB): -82; Vio(Max)(mV): 10; Vn at Flatband(Typ)(nV/rtHz): 14; Vs(Max)(V): 32; Vs(Min)(V): 9; DatasheetVersion: SLOS238D; PackageVersion: 4040047-3/M, 06/2011; PackageReference: D8; PackageDescription: 8-Pin Plastic Small Outline, Body 4.9 x 3.9 mm, Pitch 1.27 mm; Supplier 1: Digi-Key; Supplier Part Number 1: THS4052CDG4-ND; Supplier 2: Mouser; Supplier Part Number 2: 595-THS4052CDG4; Acl, min stable gain(V/V): 1; Diff Phase(deg): 0.01; Eco-Plan: Green (RoHS & no Sb/Br); Mounting Technology: Surface Mount; Code_JEDEC: MS-012; ComponentLink1Description: Manufacturer URL; ComponentLink1URL: http://www.ti.com/; ComponentLink2Description: Datasheet; ComponentLink2URL: http://www.ti.com/general/docs/lit/getliterature.tsp?genericPartNumber=THS4052&fileType=pdf; ComponentLink3Description: Package Specification; ComponentLink3URL: http://www.ti.com/litv/pdf/msoi002j
footprint TI-D8_N (SOIC, 8-Leads, Body 4.9x3.9mm, Pitch 1.27mm, IPC Medium Density)
footprint TI-D8_L (SOIC, 8-Leads, Body 4.9x3.9mm, Pitch 1.27mm, IPC High Density)
footprint TI-D8_M (SOIC, 8-Leads, Body 4.9x3.9mm, Pitch 1.27mm, IPC Low Density)
pins on every part: 4 VCC- (power), 8 VCC+ (power)
part A pins: 1 OUT1 (out), 2 IN1- (in), 3 IN1+ (in)
part B pins: 5 IN2+ (in), 6 IN2- (in), 7 OUT2 (out)

## THS4052CDGN
designator U?
70 MHz Low-Cost Voltage-Feedback Amplifier, Dual, 9 to 32 V, 0 to 70 degC, 8-pin SOP (DGN8), Green (RoHS & no Sb/Br); Manufacturer: Texas Instruments; PartNumber: THS4052CDGN; 2nd Harmonic(dBc): 84; 3rd Harmonic(dBc): 90; @ MHz: 1; BW @ Acl(MHz): 70; Diff Gain(%): 0.01; Iib(Max)(nA): 8000; Io(Typ)(mA): 100; Iq per channel(Max)(mA): 11.5; Number of Channels: 2; Settling Time (0.1%)(Typ)(ns): 60; Slew Rate(Typ)(V/us): 240; Sub Family: High Output Current Amplifier (>=50mA), High Speed Amplifier (>=50MHz), High Supply Voltage Amplifier (>=30V); THD (Fc is 1 MHz)(Typ)(dB): -82; Vio(Max)(mV): 10; Vn at Flatband(Typ)(nV/rtHz): 14; Vs(Max)(V): 32; Vs(Min)(V): 9; DatasheetVersion: SLOS238D; PackageVersion: 4073271/F, 05/2011; PackageReference: DGN8-1760X1425TP; PackageDescription: 8-pin Plastic Small Outline, Body 3 x 3 mm, Pitch 0.65 mm; Supplier 1: Digi-Key; Supplier Part Number 1: THS4052CDGN-ND; Supplier 2: Mouser; Supplier Part Number 2: 595-THS4052CDGN; Acl, min stable gain(V/V): 1; Diff Phase(deg): 0.01; Eco-Plan: Green (RoHS & no Sb/Br); Mounting Technology: Surface Mount; Code_JEDEC: MO-187; ComponentLink1Description: Manufacturer URL; ComponentLink1URL: http://www.ti.com/; ComponentLink2Description: Datasheet; ComponentLink2URL: http://www.ti.com/general/docs/lit/getliterature.tsp?genericPartNumber=THS4052&fileType=pdf; ComponentLink3Description: Package Specification; ComponentLink3URL: http://www.ti.com/litv/pdf/mpds046e
footprint TI-DGN8-1760X1425TP_N (SOP, 8-Leads, Body 3x3mm, Pitch 0.65mm, Thermal Pad 1.76x1.425mm, IPC Medium Density)
footprint TI-DGN8-1760X1425TP_L (SOP, 8-Leads, Body 3x3mm, Pitch 0.65mm, Thermal Pad 1.76x1.425mm, IPC High Density)
footprint TI-DGN8-1760X1425TP_M (SOP, 8-Leads, Body 3x3mm, Pitch 0.65mm, Thermal Pad 1.76 x 1.425 mm, IPC Low Density)
pins on every part: 4 VCC- (power), 8 VCC+ (power), 9 EP
part A pins: 1 OUT1 (out), 2 IN1- (in), 3 IN1+ (in)
part B pins: 5 IN2+ (in), 6 IN2- (in), 7 OUT2 (out)

## THS4052CDGNG4
designator U?
70 MHz Low-Cost Voltage-Feedback Amplifier, Dual, 9 to 32 V, 0 to 70 degC, 8-pin SOP (DGN8), Green (RoHS & no Sb/Br); Manufacturer: Texas Instruments; PartNumber: THS4052CDGNG4; 2nd Harmonic(dBc): 84; 3rd Harmonic(dBc): 90; @ MHz: 1; BW @ Acl(MHz): 70; Diff Gain(%): 0.01; Iib(Max)(nA): 8000; Io(Typ)(mA): 100; Iq per channel(Max)(mA): 11.5; Number of Channels: 2; Settling Time (0.1%)(Typ)(ns): 60; Slew Rate(Typ)(V/us): 240; Sub Family: High Output Current Amplifier (>=50mA), High Speed Amplifier (>=50MHz), High Supply Voltage Amplifier (>=30V); THD (Fc is 1 MHz)(Typ)(dB): -82; Vio(Max)(mV): 10; Vn at Flatband(Typ)(nV/rtHz): 14; Vs(Max)(V): 32; Vs(Min)(V): 9; DatasheetVersion: SLOS238D; PackageVersion: 4073271/F, 05/2011; PackageReference: DGN8-1760X1425TP; PackageDescription: 8-pin Plastic Small Outline, Body 3 x 3 mm, Pitch 0.65 mm; Supplier 1: Digi-Key; Supplier Part Number 1: THS4052CDGNG4-ND; Supplier 2: Newark; Supplier Part Number 2: 71J7935; Supplier 3: Mouser; Supplier Part Number 3: 595-THS4052CDGNG4; Acl, min stable gain(V/V): 1; Diff Phase(deg): 0.01; Eco-Plan: Green (RoHS & no Sb/Br); Mounting Technology: Surface Mount; Code_JEDEC: MO-187; ComponentLink1Description: Manufacturer URL; ComponentLink1URL: http://www.ti.com/; ComponentLink2Description: Datasheet; ComponentLink2URL: http://www.ti.com/general/docs/lit/getliterature.tsp?genericPartNumber=THS4052&fileType=pdf; ComponentLink3Description: Package Specification; ComponentLink3URL: http://www.ti.com/litv/pdf/mpds046e
footprint TI-DGN8-1760X1425TP_N (SOP, 8-Leads, Body 3x3mm, Pitch 0.65mm, Thermal Pad 1.76x1.425mm, IPC Medium Density)
footprint TI-DGN8-1760X1425TP_L (SOP, 8-Leads, Body 3x3mm, Pitch 0.65mm, Thermal Pad 1.76x1.425mm, IPC High Density)
footprint TI-DGN8-1760X1425TP_M (SOP, 8-Leads, Body 3x3mm, Pitch 0.65mm, Thermal Pad 1.76 x 1.425 mm, IPC Low Density)
pins on every part: 4 VCC- (power), 8 VCC+ (power), 9 EP
part A pins: 1 OUT1 (out), 2 IN1- (in), 3 IN1+ (in)
part B pins: 5 IN2+ (in), 6 IN2- (in), 7 OUT2 (out)

## THS4052CDGNR
designator U?
70 MHz Low-Cost Voltage-Feedback Amplifier, Dual, 9 to 32 V, 0 to 70 degC, 8-pin SOP (DGN8), Green (RoHS & no Sb/Br); Manufacturer: Texas Instruments; PartNumber: THS4052CDGNR; 2nd Harmonic(dBc): 84; 3rd Harmonic(dBc): 90; @ MHz: 1; BW @ Acl(MHz): 70; Diff Gain(%): 0.01; Iib(Max)(nA): 8000; Io(Typ)(mA): 100; Iq per channel(Max)(mA): 11.5; Number of Channels: 2; Settling Time (0.1%)(Typ)(ns): 60; Slew Rate(Typ)(V/us): 240; Sub Family: High Output Current Amplifier (>=50mA), High Speed Amplifier (>=50MHz), High Supply Voltage Amplifier (>=30V); THD (Fc is 1 MHz)(Typ)(dB): -82; Vio(Max)(mV): 10; Vn at Flatband(Typ)(nV/rtHz): 14; Vs(Max)(V): 32; Vs(Min)(V): 9; DatasheetVersion: SLOS238D; PackageVersion: 4073271/F, 05/2011; PackageReference: DGN8-1760X1425TP; PackageDescription: 8-pin Plastic Small Outline, Body 3 x 3 mm, Pitch 0.65 mm; Supplier 1: Digi-Key; Supplier Part Number 1: 296-7538-2-ND; Supplier 2: Digi-Key; Supplier Part Number 2: 296-7538-1-ND; Supplier 3: Digi-Key; Supplier Part Number 3: 296-7538-6-ND; Supplier 4: Newark; Supplier Part Number 4: 76C6344; Supplier 5: Mouser; Supplier Part Number 5: 595-THS4052CDGNR; Acl, min stable gain(V/V): 1; Diff Phase(deg): 0.01; Eco-Plan: Green (RoHS & no Sb/Br); Mounting Technology: Surface Mount; Code_JEDEC: MO-187; ComponentLink1Description: Manufacturer URL; ComponentLink1URL: http://www.ti.com/; ComponentLink2Description: Datasheet; ComponentLink2URL: http://www.ti.com/general/docs/lit/getliterature.tsp?genericPartNumber=THS4052&fileType=pdf; ComponentLink3Description: Package Specification; ComponentLink3URL: http://www.ti.com/litv/pdf/mpds046e
footprint TI-DGN8-1760X1425TP_N (SOP, 8-Leads, Body 3x3mm, Pitch 0.65mm, Thermal Pad 1.76x1.425mm, IPC Medium Density)
footprint TI-DGN8-1760X1425TP_L (SOP, 8-Leads, Body 3x3mm, Pitch 0.65mm, Thermal Pad 1.76x1.425mm, IPC High Density)
footprint TI-DGN8-1760X1425TP_M (SOP, 8-Leads, Body 3x3mm, Pitch 0.65mm, Thermal Pad 1.76 x 1.425 mm, IPC Low Density)
pins on every part: 4 VCC- (power), 8 VCC+ (power), 9 EP
part A pins: 1 OUT1 (out), 2 IN1- (in), 3 IN1+ (in)
part B pins: 5 IN2+ (in), 6 IN2- (in), 7 OUT2 (out)

## THS4052CDGNRG4
designator U?
70 MHz Low-Cost Voltage-Feedback Amplifier, Dual, 9 to 32 V, 0 to 70 degC, 8-pin SOP (DGN8), Green (RoHS & no Sb/Br); Manufacturer: Texas Instruments; PartNumber: THS4052CDGNRG4; 2nd Harmonic(dBc): 84; 3rd Harmonic(dBc): 90; @ MHz: 1; BW @ Acl(MHz): 70; Diff Gain(%): 0.01; Iib(Max)(nA): 8000; Io(Typ)(mA): 100; Iq per channel(Max)(mA): 11.5; Number of Channels: 2; Settling Time (0.1%)(Typ)(ns): 60; Slew Rate(Typ)(V/us): 240; Sub Family: High Output Current Amplifier (>=50mA), High Speed Amplifier (>=50MHz), High Supply Voltage Amplifier (>=30V); THD (Fc is 1 MHz)(Typ)(dB): -82; Vio(Max)(mV): 10; Vn at Flatband(Typ)(nV/rtHz): 14; Vs(Max)(V): 32; Vs(Min)(V): 9; DatasheetVersion: SLOS238D; PackageVersion: 4073271/F, 05/2011; PackageReference: DGN8-1760X1425TP; PackageDescription: 8-pin Plastic Small Outline, Body 3 x 3 mm, Pitch 0.65 mm; Supplier 1: Digi-Key; Supplier Part Number 1: THS4052CDGNRG4-ND; Supplier 2: Mouser; Supplier Part Number 2: 595-THS4052CDGNRG4; Acl, min stable gain(V/V): 1; Diff Phase(deg): 0.01; Eco-Plan: Green (RoHS & no Sb/Br); Mounting Technology: Surface Mount; Code_JEDEC: MO-187; ComponentLink1Description: Manufacturer URL; ComponentLink1URL: http://www.ti.com/; ComponentLink2Description: Datasheet; ComponentLink2URL: http://www.ti.com/general/docs/lit/getliterature.tsp?genericPartNumber=THS4052&fileType=pdf; ComponentLink3Description: Package Specification; ComponentLink3URL: http://www.ti.com/litv/pdf/mpds046e
footprint TI-DGN8-1760X1425TP_N (SOP, 8-Leads, Body 3x3mm, Pitch 0.65mm, Thermal Pad 1.76x1.425mm, IPC Medium Density)
footprint TI-DGN8-1760X1425TP_L (SOP, 8-Leads, Body 3x3mm, Pitch 0.65mm, Thermal Pad 1.76x1.425mm, IPC High Density)
footprint TI-DGN8-1760X1425TP_M (SOP, 8-Leads, Body 3x3mm, Pitch 0.65mm, Thermal Pad 1.76 x 1.425 mm, IPC Low Density)
pins on every part: 4 VCC- (power), 8 VCC+ (power), 9 EP
part A pins: 1 OUT1 (out), 2 IN1- (in), 3 IN1+ (in)
part B pins: 5 IN2+ (in), 6 IN2- (in), 7 OUT2 (out)

## THS4052CDR
designator U?
70 MHz Low-Cost Voltage-Feedback Amplifier, Dual, 9 to 32 V, 0 to 70 degC, 8-pin SOIC (D8), Green (RoHS & no Sb/Br); Manufacturer: Texas Instruments; PartNumber: THS4052CDR; 2nd Harmonic(dBc): 84; 3rd Harmonic(dBc): 90; @ MHz: 1; BW @ Acl(MHz): 70; Diff Gain(%): 0.01; Iib(Max)(nA): 8000; Io(Typ)(mA): 100; Iq per channel(Max)(mA): 11.5; Number of Channels: 2; Settling Time (0.1%)(Typ)(ns): 60; Slew Rate(Typ)(V/us): 240; Sub Family: High Output Current Amplifier (>=50mA), High Speed Amplifier (>=50MHz), High Supply Voltage Amplifier (>=30V); THD (Fc is 1 MHz)(Typ)(dB): -82; Vio(Max)(mV): 10; Vn at Flatband(Typ)(nV/rtHz): 14; Vs(Max)(V): 32; Vs(Min)(V): 9; DatasheetVersion: SLOS238D; PackageVersion: 4040047-3/M, 06/2011; PackageReference: D8; PackageDescription: 8-Pin Plastic Small Outline, Body 4.9 x 3.9 mm, Pitch 1.27 mm; Supplier 1: Digi-Key; Supplier Part Number 1: THS4052CDR-ND; Supplier 2: Mouser; Supplier Part Number 2: 595-THS4052CDR; Acl, min stable gain(V/V): 1; Diff Phase(deg): 0.01; Eco-Plan: Green (RoHS & no Sb/Br); Mounting Technology: Surface Mount; Code_JEDEC: MS-012; ComponentLink1Description: Manufacturer URL; ComponentLink1URL: http://www.ti.com/; ComponentLink2Description: Datasheet; ComponentLink2URL: http://www.ti.com/general/docs/lit/getliterature.tsp?genericPartNumber=THS4052&fileType=pdf; ComponentLink3Description: Package Specification; ComponentLink3URL: http://www.ti.com/litv/pdf/msoi002j
footprint TI-D8_N (SOIC, 8-Leads, Body 4.9x3.9mm, Pitch 1.27mm, IPC Medium Density)
footprint TI-D8_L (SOIC, 8-Leads, Body 4.9x3.9mm, Pitch 1.27mm, IPC High Density)
footprint TI-D8_M (SOIC, 8-Leads, Body 4.9x3.9mm, Pitch 1.27mm, IPC Low Density)
pins on every part: 4 VCC- (power), 8 VCC+ (power)
part A pins: 1 OUT1 (out), 2 IN1- (in), 3 IN1+ (in)
part B pins: 5 IN2+ (in), 6 IN2- (in), 7 OUT2 (out)

## THS4052CDRG4
designator U?
70 MHz Low-Cost Voltage-Feedback Amplifier, Dual, 9 to 32 V, 0 to 70 degC, 8-pin SOIC (D8), Green (RoHS & no Sb/Br); Manufacturer: Texas Instruments; PartNumber: THS4052CDRG4; 2nd Harmonic(dBc): 84; 3rd Harmonic(dBc): 90; @ MHz: 1; BW @ Acl(MHz): 70; Diff Gain(%): 0.01; Iib(Max)(nA): 8000; Io(Typ)(mA): 100; Iq per channel(Max)(mA): 11.5; Number of Channels: 2; Settling Time (0.1%)(Typ)(ns): 60; Slew Rate(Typ)(V/us): 240; Sub Family: High Output Current Amplifier (>=50mA), High Speed Amplifier (>=50MHz), High Supply Voltage Amplifier (>=30V); THD (Fc is 1 MHz)(Typ)(dB): -82; Vio(Max)(mV): 10; Vn at Flatband(Typ)(nV/rtHz): 14; Vs(Max)(V): 32; Vs(Min)(V): 9; DatasheetVersion: SLOS238D; PackageVersion: 4040047-3/M, 06/2011; PackageReference: D8; PackageDescription: 8-Pin Plastic Small Outline, Body 4.9 x 3.9 mm, Pitch 1.27 mm; Supplier 1: Digi-Key; Supplier Part Number 1: THS4052CDRG4-ND; Supplier 2: Mouser; Supplier Part Number 2: 595-THS4052CDRG4; Acl, min stable gain(V/V): 1; Diff Phase(deg): 0.01; Eco-Plan: Green (RoHS & no Sb/Br); Mounting Technology: Surface Mount; Code_JEDEC: MS-012; ComponentLink1Description: Manufacturer URL; ComponentLink1URL: http://www.ti.com/; ComponentLink2Description: Datasheet; ComponentLink2URL: http://www.ti.com/general/docs/lit/getliterature.tsp?genericPartNumber=THS4052&fileType=pdf; ComponentLink3Description: Package Specification; ComponentLink3URL: http://www.ti.com/litv/pdf/msoi002j
footprint TI-D8_N (SOIC, 8-Leads, Body 4.9x3.9mm, Pitch 1.27mm, IPC Medium Density)
footprint TI-D8_L (SOIC, 8-Leads, Body 4.9x3.9mm, Pitch 1.27mm, IPC High Density)
footprint TI-D8_M (SOIC, 8-Leads, Body 4.9x3.9mm, Pitch 1.27mm, IPC Low Density)
pins on every part: 4 VCC- (power), 8 VCC+ (power)
part A pins: 1 OUT1 (out), 2 IN1- (in), 3 IN1+ (in)
part B pins: 5 IN2+ (in), 6 IN2- (in), 7 OUT2 (out)

## THS4052ID
designator U?
70 MHz Low-Cost Voltage-Feedback Amplifier, Dual, 9 to 32 V, -40 to 85 degC, 8-pin SOIC (D8), Green (RoHS & no Sb/Br); Manufacturer: Texas Instruments; PartNumber: THS4052ID; 2nd Harmonic(dBc): 84; 3rd Harmonic(dBc): 90; @ MHz: 1; BW @ Acl(MHz): 70; Diff Gain(%): 0.01; Iib(Max)(nA): 8000; Io(Typ)(mA): 100; Iq per channel(Max)(mA): 11.5; Number of Channels: 2; Settling Time (0.1%)(Typ)(ns): 60; Slew Rate(Typ)(V/us): 240; Sub Family: High Output Current Amplifier (>=50mA), High Speed Amplifier (>=50MHz), High Supply Voltage Amplifier (>=30V); THD (Fc is 1 MHz)(Typ)(dB): -82; Vio(Max)(mV): 10; Vn at Flatband(Typ)(nV/rtHz): 14; Vs(Max)(V): 32; Vs(Min)(V): 9; DatasheetVersion: SLOS238D; PackageVersion: 4040047-3/M, 06/2011; PackageReference: D8; PackageDescription: 8-Pin Plastic Small Outline, Body 4.9 x 3.9 mm, Pitch 1.27 mm; Supplier 1: Digi-Key; Supplier Part Number 1: 296-7539-5-ND; Supplier 2: Newark; Supplier Part Number 2: 76C6347; Supplier 3: Mouser; Supplier Part Number 3: 595-THS4052ID; Acl, min stable gain(V/V): 1; Diff Phase(deg): 0.01; Eco-Plan: Green (RoHS & no Sb/Br); Mounting Technology: Surface Mount; Code_JEDEC: MS-012; ComponentLink1Description: Manufacturer URL; ComponentLink1URL: http://www.ti.com/; ComponentLink2Description: Datasheet; ComponentLink2URL: http://www.ti.com/general/docs/lit/getliterature.tsp?genericPartNumber=THS4052&fileType=pdf; ComponentLink3Description: Package Specification; ComponentLink3URL: http://www.ti.com/litv/pdf/msoi002j
footprint TI-D8_N (SOIC, 8-Leads, Body 4.9x3.9mm, Pitch 1.27mm, IPC Medium Density)
footprint TI-D8_L (SOIC, 8-Leads, Body 4.9x3.9mm, Pitch 1.27mm, IPC High Density)
footprint TI-D8_M (SOIC, 8-Leads, Body 4.9x3.9mm, Pitch 1.27mm, IPC Low Density)
pins on every part: 4 VCC- (power), 8 VCC+ (power)
part A pins: 1 OUT1 (out), 2 IN1- (in), 3 IN1+ (in)
part B pins: 5 IN2+ (in), 6 IN2- (in), 7 OUT2 (out)